# EAGLE library part MX25V4035FZUI (library Memory)
IC FLASH 4MBIT SPI/QUAD 8USON Manufacturer's datasheet <https://www.macronix.com/Lists/Datasheet/Attachments/7423/MX25V4035F,%202.5V,%204Mb,%20v1.2.pdf>
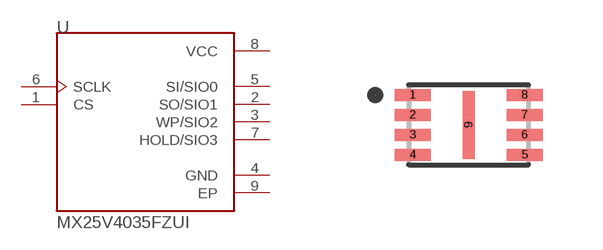
[diagram p7: symbol with the pads of USON-8; footprint USON-8]

Designator prefix U

## MX25V4035FZUI (CREATED_BY: PCBLayout.com; DIGIKEY_PART_NUMBER: 1092-MX25V4035FZUITR-ND; MANUFACTURER: Macronix; MPN: MX25V4035FZUI; PACKAGE: 8-USON)  [USON-8]
1  CS  in
2  SO/SIO1
3  WP/SIO2
4  GND  pwr
5  SI/SIO0
6  SCLK  in
7  HOLD/SIO3
8  VCC  pwr
9  EP  pwr

## Footprint USON-8 (pad centres in mm)
smd 0.9 x 0.3: 1 -1.4,0.75; 2 -1.4,0.25; 3 -1.4,-0.25; 4 -1.4,-0.75; 5 1.4,-0.75; 6 1.4,-0.25; 7 1.4,0.25; 8 1.4,0.75
smd 0.3 x 1.7: 9 0,0